# EAGLE library part LAN8710A-EZC (library LAN8710A)
IC, MII/RMII 10/100 ENET TRX, 32VQFN
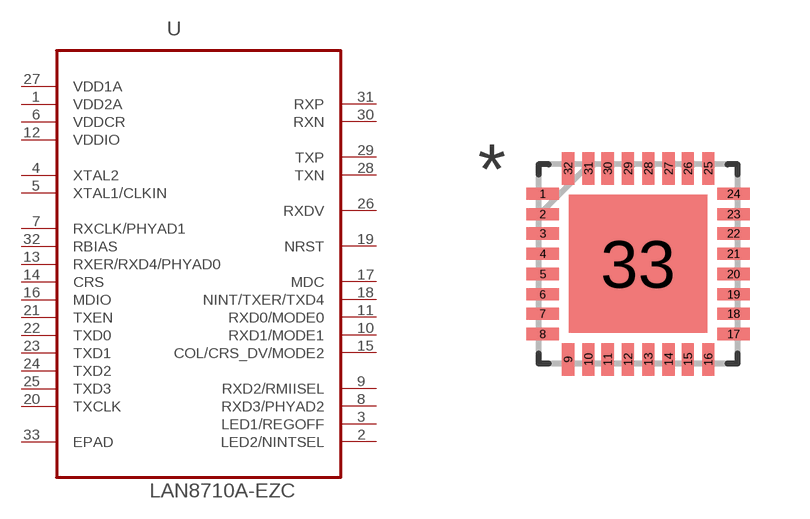
[diagram p0: symbol with the pads of QFN50P500X500X100-33N; footprint QFN50P500X500X100-33N]

Designator prefix U

## LAN8710A-EZC (MPN: LAN8710A-EZC; OC_FARNELL: 2292574; OC_NEWARK: 66W1982; PACKAGE: 32VQFN; SUPPLIER: Microchip)  [QFN50P500X500X100-33N]
1  VDD2A  pwr
2  LED2/NINTSEL  out
3  LED1/REGOFF  out
4  XTAL2  pas
5  XTAL1/CLKIN  pas
6  VDDCR  pwr
7  RXCLK/PHYAD1  pas
8  RXD3/PHYAD2  out
9  RXD2/RMIISEL  out
10  RXD1/MODE1  out
11  RXD0/MODE0  out
12  VDDIO  pwr
13  RXER/RXD4/PHYAD0  pas
14  CRS  pas
15  COL/CRS_DV/MODE2  out
16  MDIO
17  MDC  pas
18  NINT/TXER/TXD4  pas
19  NRST  pas
20  TXCLK  pas
21  TXEN  in
22  TXD0  in
23  TXD1  in
24  TXD2  in
25  TXD3  in
26  RXDV  pas
27  VDD1A  pwr
28  TXN
29  TXP
30  RXN
31  RXP
32  RBIAS  pas
33  EPAD  pas

## Footprint QFN50P500X500X100-33N (pad centres in mm)
smd 0.813 x 0.305: 1 -2.388,1.753; 2 -2.388,1.245; 3 -2.388,0.762; 4 -2.388,0.254; 5 -2.388,-0.254; 6 -2.388,-0.762; 7 -2.388,-1.245; 8 -2.388,-1.753; 17 2.388,-1.753; 18 2.388,-1.245; 19 2.388,-0.762; 20 2.388,-0.254; 21 2.388,0.254; 22 2.388,0.762; 23 2.388,1.245; 24 2.388,1.753
smd 0.305 x 0.813: 9 -1.753,-2.388; 10 -1.245,-2.388; 11 -0.762,-2.388; 12 -0.254,-2.388; 13 0.254,-2.388; 14 0.762,-2.388; 15 1.245,-2.388; 16 1.753,-2.388; 25 1.753,2.388; 26 1.245,2.388; 27 0.762,2.388; 28 0.254,2.388; 29 -0.254,2.388; 30 -0.762,2.388; 31 -1.245,2.388; 32 -1.753,2.388
smd 3.454 x 3.454: 33 0,0